# Altium footprint library SOP65P780X200-28N.PcbLib: 1 footprints
Each footprint in its own frame and in the unit in brackets; x right, y up, seen from the top. Pads: shape width x height; smd on the part's side, far side on the other; paste and mask are expansions set on the pad; w line width, h text height; cw(c..) or ccw(c..) is an arc to the next point about the centre after c.
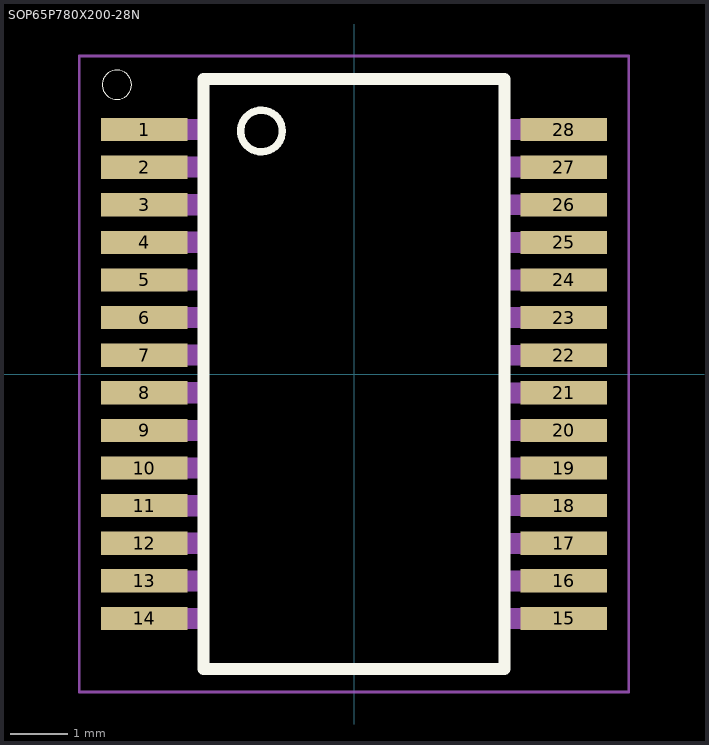
[diagram p0: the footprint, top view; thin cyan lines are the x and y axes]

## SOP65P780X200-28N [mm]
pads (28):
  rect 1.5x0.4 smd: 1(-3.625,4.225) 2(-3.625,3.575) 3(-3.625,2.925) 4(-3.625,2.275) 5(-3.625,1.625) 6(-3.625,0.975) 7(-3.625,0.325) 8(-3.625,-0.325) 9(-3.625,-0.975) 10(-3.625,-1.625) 11(-3.625,-2.275) 12(-3.625,-2.925) 13(-3.625,-3.575) 14(-3.625,-4.225) 15(3.625,-4.225) 16(3.625,-3.575) 17(3.625,-2.925) 18(3.625,-2.275) 19(3.625,-1.625) 20(3.625,-0.975) 21(3.625,-0.325) 22(3.625,0.325) 23(3.625,0.975) 24(3.625,1.625) 25(3.625,2.275) 26(3.625,2.925) 27(3.625,3.575) 28(3.625,4.225)
Top Overlay:
  circle w0: c-4.1,5 r0.254
  circle w0.127: c-1.6,4.2 r0.361
  lines w0.203: -2.6,-5.1 -2.6,5.1 2.6,5.1 2.6,-5.1 -2.6,-5.1
Mechanical 13:
  region: -2.645,4.047 -3.937,4.047 -3.937,4.406 -2.645,4.406
  region: -2.642,3.397 -3.937,3.397 -3.937,3.754 -2.642,3.754
  region: -2.644,2.747 -3.937,2.747 -3.937,3.105 -2.644,3.105
  region: -2.644,2.096 -3.938,2.096 -3.938,2.455 -2.644,2.455
  region: -2.642,1.447 -3.937,1.447 -3.937,1.803 -2.642,1.803
  region: -2.642,0.797 -3.938,0.797 -3.938,1.154 -2.642,1.154
  region: -2.642,0.147 -3.937,0.147 -3.937,0.503 -2.642,0.503
  region: -2.643,-0.505 -3.939,-0.505 -3.939,-0.146 -2.643,-0.146
  region: -2.642,-1.155 -3.939,-1.155 -3.939,-0.797 -2.642,-0.797
  region: -2.642,-1.804 -3.938,-1.804 -3.938,-1.447 -2.642,-1.447
  region: -2.642,-2.455 -3.939,-2.455 -3.939,-2.097 -2.642,-2.097
  region: -2.642,-3.103 -3.937,-3.103 -3.937,-2.747 -2.642,-2.747
  region: -2.641,-3.754 -3.938,-3.754 -3.938,-3.397 -2.641,-3.397
  region: -2.641,-4.404 -3.939,-4.404 -3.939,-4.047 -2.641,-4.047
  region: 3.938,-4.403 2.641,-4.403 2.641,-4.048 3.938,-4.048
  region: 3.942,-3.754 2.641,-3.754 2.641,-3.402 3.942,-3.402
  region: 3.941,-3.103 2.641,-3.103 2.641,-2.752 3.941,-2.752
  region: 3.94,-2.453 2.642,-2.453 2.642,-2.1 3.94,-2.1
  region: 3.939,-1.803 2.642,-1.803 2.642,-1.449 3.939,-1.449
  region: 3.941,-1.152 2.643,-1.152 2.643,-0.802 3.941,-0.802
  region: 3.938,-0.503 2.642,-0.503 2.642,-0.148 3.938,-0.148
  region: 3.939,0.149 2.643,0.149 2.643,0.501 3.939,0.501
  region: 3.94,0.8 2.645,0.8 2.645,1.15 3.94,1.15
  region: 3.938,1.449 2.643,1.449 2.643,1.802 3.938,1.802
  region: 3.938,2.099 2.643,2.099 2.643,2.452 3.938,2.452
  region: 3.937,2.749 2.643,2.749 2.643,3.103 3.937,3.103
  region: 3.937,3.4 2.644,3.4 2.644,3.753 3.937,3.753
  region: 3.937,4.052 2.647,4.052 2.647,4.403 3.937,4.403
Mechanical 15:
  lines w0.05: -4.75,-5.5 4.75,-5.5 4.75,5.5 -4.75,5.5 -4.75,-5.5
3D body "step_temp.STEP": height 2, standoff 0, extent -3.773,-5.1 4.027,5.1